# EAGLE library part AM3352 (library custom)
edit this description Auto generated by make-symbol-device-package-bsdl.ulp Rev. 39 Source:
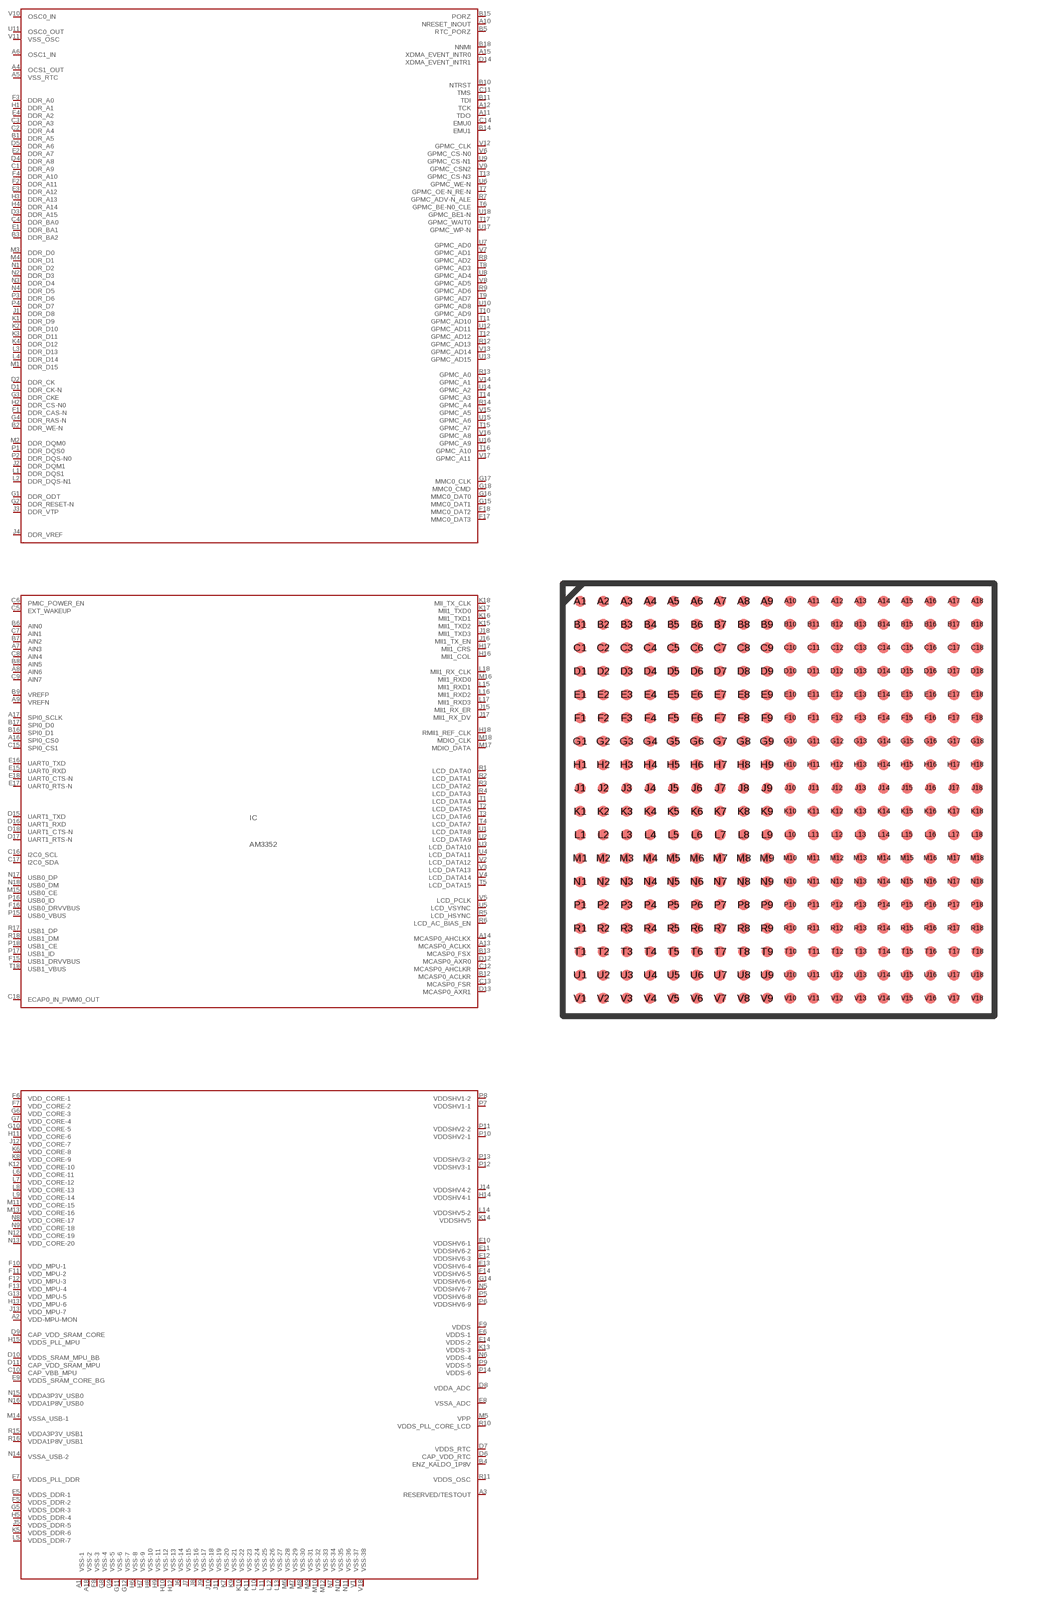
[diagram p0: symbol with the pads of S-PBGA-N324; footprint S-PBGA-N324]

Designator prefix IC

## AM3352  [S-PBGA-N324]
A1  VSS-1  pas
A2  VDD-MPU-MON  pas
A3  RESERVED/TESTOUT  pas
A4  OCS1_OUT  pas
A5  VSS_RTC  pas
A6  OSC1_IN  pas
A7  AIN3  pas
A8  AIN6  pas
A9  VREFN  pas
A10  NRESET_INOUT  pas
A11  TDO  pas
A12  TCK  pas
A13  MCASP0_ACLKX  pas
A14  MCASP0_AHCLKX  pas
A15  XDMA_EVENT_INTR0  pas
A16  SPI0_CS0  pas
A17  SPI0_SCLK  pas
A18  VSS-2  pas
B1  DDR_A5  pas
B2  DDR_WE-N  pas
B3  DDR_BA2  pas
B4  ENZ_KALDO_1P8V  pas
B5  RTC_PORZ  pas
B6  AIN0  pas
B7  AIN2  pas
B8  AIN5  pas
B9  VREFP  pas
B10  NTRST  pas
B11  TDI  pas
B12  MCASP0_ACLKR  pas
B13  MCASP0_FSX  pas
B14  EMU1  pas
B15  PORZ  pas
B16  SPI0_D1  pas
B17  SPI0_D0  pas
B18  NNMI  pas
C1  DDR_A9  pas
C2  DDR_A4  pas
C3  DDR_A3  pas
C4  DDR_BA0  pas
C5  EXT_WAKEUP  pas
C6  PMIC_POWER_EN  pas
C7  AIN1  pas
C8  AIN4  pas
C9  AIN7  pas
C10  CAP_VBB_MPU  pas
C11  TMS  pas
C12  MCASP0_AHCLKR  pas
C13  MCASP0_FSR  pas
C14  EMU0  pas
C15  SPI0_CS1  pas
C16  I2C0_SCL  pas
C17  I2C0_SDA  pas
C18  ECAP0_IN_PWM0_OUT  pas
D1  DDR_CK-N  pas
D2  DDR_CK  pas
D3  DDR_A15  pas
D4  DDR_A8  pas
D5  DDR_A6  pas
D6  CAP_VDD_RTC  pas
D7  VDDS_RTC  pas
D8  VDDA_ADC  pas
D9  CAP_VDD_SRAM_CORE  pas
D10  VDDS_SRAM_MPU_BB  pas
D11  CAP_VDD_SRAM_MPU  pas
D12  MCASP0_AXR0  pas
D13  MCASP0_AXR1  pas
D14  XDMA_EVENT_INTR1  pas
D15  UART1_TXD  pas
D16  UART1_RXD  pas
D17  UART1_RTS-N  pas
D18  UART1_CTS-N  pas
E1  DDR_BA1  pas
E2  DDR_A7  pas
E3  DDR_A12  pas
E4  DDR_A2  pas
E5  VDDS_DDR-1  pas
E6  VDDS-1  pas
E7  VDDS_PLL_DDR  pas
E8  VSSA_ADC  pas
E9  VDDS_SRAM_CORE_BG  pas
E10  VDDSHV6-1  pas
E11  VDDSHV6-2  pas
E12  VDDSHV6-3  pas
E13  VDDSHV6-4  pas
E14  VDDS-2  pas
E15  UART0_RXD  pas
E16  UART0_TXD  pas
E17  UART0_RTS-N  pas
E18  UART0_CTS-N  pas
F1  DDR_CAS-N  pas
F2  DDR_A11  pas
F3  DDR_A0  pas
F4  DDR_A10  pas
F5  VDDS_DDR-2  pas
F6  VDD_CORE-1  pas
F7  VDD_CORE-2  pas
F8  VSS-3  pas
F9  VDDS  pas
F10  VDD_MPU-1  pas
F11  VDD_MPU-2  pas
F12  VDD_MPU-3  pas
F13  VDD_MPU-4  pas
F14  VDDSHV6-5  pas
F15  USB1_DRVVBUS  pas
F16  USB0_DRVVBUS  pas
F17  MMC0_DAT3  pas
F18  MMC0_DAT2  pas
G1  DDR_ODT  pas
G2  DDR_RESET-N  pas
G3  DDR_CKE  pas
G4  DDR_RAS-N  pas
G5  VDDS_DDR-3  pas
G6  VDD_CORE-3  pas
G7  VDD_CORE-4  pas
G8  VSS-4  pas
G9  VSS-5  pas
G10  VDD_CORE-5  pas
G11  VSS-6  pas
G12  VSS-7  pas
G13  VDD_MPU-5  pas
G14  VDDSHV6-6  pas
G15  MMC0_DAT1  pas
G16  MMC0_DAT0  pas
G17  MMC0_CLK  pas
G18  MMC0_CMD  pas
H1  DDR_A1  pas
H2  DDR_CS-N0  pas
H3  DDR_A13  pas
H4  DDR_A14  pas
H5  VDDS_DDR-4  pas
H6  VSS-8  pas
H7  VSS-9  pas
H8  VSS-10  pas
H9  VSS-11  pas
H10  VSS-12  pas
H11  VDD_CORE-6  pas
H12  VSS-13  pas
H13  VDD_MPU-6  pas
H14  VDDSHV4-1  pas
H15  VDDS_PLL_MPU  pas
H16  MII1_COL  pas
H17  MII1_CRS  pas
H18  RMII1_REF_CLK  pas
J1  DDR_D8  pas
J2  DDR_DQM1  pas
J3  DDR_VTP  pas
J4  DDR_VREF  pas
J5  VDDS_DDR-5  pas
J6  VSS-14  pas
J7  VSS-15  pas
J8  VSS-16  pas
J9  VSS-17  pas
J10  VSS-18  pas
J11  VSS-19  pas
J12  VDD_CORE-7  pas
J13  VDD_MPU-7  pas
J14  VDDSHV4-2  pas
J15  MII1_RX_ER  pas
J16  MII1_TX_EN  pas
J17  MII1_RX_DV  pas
J18  MII1_TXD3  pas
K1  DDR_D9  pas
K2  DDR_D10  pas
K3  DDR_D11  pas
K4  DDR_D12  pas
K5  VDDS_DDR-6  pas
K6  VDD_CORE-8  pas
K7  VSS-20  pas
K8  VDD_CORE-9  pas
K9  VSS-21  pas
K10  VSS-22  pas
K11  VSS-23  pas
K12  VDD_CORE-10  pas
K13  VDDS-3  pas
K14  VDDSHV5  pas
K15  MII1_TXD2  pas
K16  MII1_TXD1  pas
K17  MII1_TXD0  pas
K18  MII_TX_CLK  pas
L1  DDR_DQS1  pas
L2  DDR_DQS-N1  pas
L3  DDR_D13  pas
L4  DDR_D14  pas
L5  VDDS_DDR-7  pas
L6  VDD_CORE-11  pas
L7  VDD_CORE-12  pas
L8  VDD_CORE-13  pas
L9  VDD_CORE-14  pas
L10  VSS-24  pas
L11  VSS-25  pas
L12  VSS-26  pas
L13  VSS-27  pas
L14  VDDSHV5-2  pas
L15  MII1_RXD1  pas
L16  MII1_RXD2  pas
L17  MII1_RXD3  pas
L18  MII1_RX_CLK  pas
M1  DDR_D15  pas
M2  DDR_DQM0  pas
M3  DDR_D0  pas
M4  DDR_D1  pas
M5  VPP  pas
M6  VSS-28  pas
M7  VSS-29  pas
M8  VSS-30  pas
M9  VSS-31  pas
M10  VSS-32  pas
M11  VDD_CORE-15  pas
M12  VSS-33  pas
M13  VDD_CORE-16  pas
M14  VSSA_USB-1  pas
M15  USB0_CE  pas
M16  MII1_RXD0  pas
M17  MDIO_DATA  pas
M18  MDIO_CLK  pas
N1  DDR_D2  pas
N2  DDR_D3  pas
N3  DDR_D4  pas
N4  DDR_D5  pas
N5  VDDSHV6-7  pas
N6  VDDS-4  pas
N7  VSS-34  pas
N8  VDD_CORE-17  pas
N9  VDD_CORE-18  pas
N10  VSS-35  pas
N11  VSS-36  pas
N12  VDD_CORE-19  pas
N13  VDD_CORE-20  pas
N14  VSSA_USB-2  pas
N15  VDDA3P3V_USB0  pas
N16  VDDA1P8V_USB0  pas
N17  USB0_DP  pas
N18  USB0_DM  pas
P1  DDR_DQS0  pas
P2  DDR_DQS-N0  pas
P3  DDR_D6  pas
P4  DDR_D7  pas
P5  VDDSHV6-8  pas
P6  VDDSHV6-9  pas
P7  VDDSHV1-1  pas
P8  VDDSHV1-2  pas
P9  VDDS-5  pas
P10  VDDSHV2-1  pas
P11  VDDSHV2-2  pas
P12  VDDSHV3-1  pas
P13  VDDSHV3-2  pas
P14  VDDS-6  pas
P15  USB0_VBUS  pas
P16  USB0_ID  pas
P17  USB1_ID  pas
P18  USB1_CE  pas
R1  LCD_DATA0  pas
R2  LCD_DATA1  pas
R3  LCD_DATA2  pas
R4  LCD_DATA3  pas
R5  LCD_HSYNC  pas
R6  LCD_AC_BIAS_EN  pas
R7  GPMC_ADV-N_ALE  pas
R8  GPMC_AD2  pas
R9  GPMC_AD6  pas
R10  VDDS_PLL_CORE_LCD  pas
R11  VDDS_OSC  pas
R12  GPMC_AD13  pas
R13  GPMC_A0  pas
R14  GPMC_A4  pas
R15  VDDA3P3V_USB1  pas
R16  VDDA1P8V_USB1  pas
R17  USB1_DP  pas
R18  USB1_DM  pas
T1  LCD_DATA4  pas
T2  LCD_DATA5  pas
T3  LCD_DATA6  pas
T4  LCD_DATA7  pas
T5  LCD_DATA15  pas
T6  GPMC_BE-N0_CLE  pas
T7  GPMC_OE-N_RE-N  pas
T8  GPMC_AD3  pas
T9  GPMC_AD7  pas
T10  GPMC_AD9  pas
T11  GPMC_AD10  pas
T12  GPMC_AD12  pas
T13  GPMC_CS-N3  pas
T14  GPMC_A3  pas
T15  GPMC_A7  pas
T16  GPMC_A10  pas
T17  GPMC_WAIT0  pas
T18  USB1_VBUS  pas
U1  LCD_DATA8  pas
U2  LCD_DATA9  pas
U3  LCD_DATA10  pas
U4  LCD_DATA11  pas
U5  LCD_VSYNC  pas
U6  GPMC_WE-N  pas
U7  GPMC_AD0  pas
U8  GPMC_AD4  pas
U9  GPMC_CS-N1  pas
U10  GPMC_AD8  pas
U11  OSC0_OUT  pas
U12  GPMC_AD11  pas
U13  GPMC_AD15  pas
U14  GPMC_A2  pas
U15  GPMC_A6  pas
U16  GPMC_A9  pas
U17  GPMC_WP-N  pas
U18  GPMC_BE1-N  pas
V1  VSS-37  pas
V2  LCD_DATA12  pas
V3  LCD_DATA13  pas
V4  LCD_DATA14  pas
V5  LCD_PCLK  pas
V6  GPMC_CS-N0  pas
V7  GPMC_AD1  pas
V8  GPMC_AD5  pas
V9  GPMC_CSN2  pas
V10  OSC0_IN  pas
V11  VSS_OSC  pas
V12  GPMC_CLK  pas
V13  GPMC_AD14  pas
V14  GPMC_A1  pas
V15  GPMC_A5  pas
V16  GPMC_A8  pas
V17  GPMC_A11  pas
V18  VSS-38  pas

## Footprint S-PBGA-N324 (pad centres in mm)
edit this description Auto generated by make-symbol-device-package-bsdl.ulp Rev. 39 Source:
smd 0.381 x 0.381: A1 -6.8,6.8; A2 -6,6.8; A3 -5.2,6.8; A4 -4.4,6.8; A5 -3.6,6.8; A6 -2.8,6.8; A7 -2,6.8; A8 -1.2,6.8; A9 -0.4,6.8; A10 0.4,6.8; A11 1.2,6.8; A12 2,6.8; A13 2.8,6.8; A14 3.6,6.8; A15 4.4,6.8; A16 5.2,6.8; A17 6,6.8; A18 6.8,6.8; B1 -6.8,6; B2 -6,6; B3 -5.2,6; B4 -4.4,6; B5 -3.6,6; B6 -2.8,6; B7 -2,6; B8 -1.2,6; B9 -0.4,6; B10 0.4,6; B11 1.2,6; B12 2,6; B13 2.8,6; B14 3.6,6; B15 4.4,6; B16 5.2,6; B17 6,6; B18 6.8,6; C1 -6.8,5.2; C2 -6,5.2; C3 -5.2,5.2; C4 -4.4,5.2; C5 -3.6,5.2; C6 -2.8,5.2; C7 -2,5.2; C8 -1.2,5.2; C9 -0.4,5.2; C10 0.4,5.2; C11 1.2,5.2; C12 2,5.2; C13 2.8,5.2; C14 3.6,5.2; C15 4.4,5.2; C16 5.2,5.2; C17 6,5.2; C18 6.8,5.2; D1 -6.8,4.4; D2 -6,4.4; D3 -5.2,4.4; D4 -4.4,4.4; D5 -3.6,4.4; D6 -2.8,4.4; D7 -2,4.4; D8 -1.2,4.4; D9 -0.4,4.4; D10 0.4,4.4; D11 1.2,4.4; D12 2,4.4; D13 2.8,4.4; D14 3.6,4.4; D15 4.4,4.4; D16 5.2,4.4; D17 6,4.4; D18 6.8,4.4; E1 -6.8,3.6; E2 -6,3.6; E3 -5.2,3.6; E4 -4.4,3.6; E5 -3.6,3.6; E6 -2.8,3.6; E7 -2,3.6; E8 -1.2,3.6; E9 -0.4,3.6; E10 0.4,3.6; E11 1.2,3.6; E12 2,3.6; E13 2.8,3.6; E14 3.6,3.6; E15 4.4,3.6; E16 5.2,3.6; E17 6,3.6; E18 6.8,3.6; F1 -6.8,2.8; F2 -6,2.8; F3 -5.2,2.8; F4 -4.4,2.8; F5 -3.6,2.8; F6 -2.8,2.8; F7 -2,2.8; F8 -1.2,2.8; F9 -0.4,2.8; F10 0.4,2.8; F11 1.2,2.8; F12 2,2.8; F13 2.8,2.8; F14 3.6,2.8; F15 4.4,2.8; F16 5.2,2.8; F17 6,2.8; F18 6.8,2.8; G1 -6.8,2; G2 -6,2; G3 -5.2,2; G4 -4.4,2; G5 -3.6,2; G6 -2.8,2; G7 -2,2; G8 -1.2,2; G9 -0.4,2; G10 0.4,2; G11 1.2,2; G12 2,2; G13 2.8,2; G14 3.6,2; G15 4.4,2; G16 5.2,2; G17 6,2; G18 6.8,2; H1 -6.8,1.2; H2 -6,1.2; H3 -5.2,1.2; H4 -4.4,1.2; H5 -3.6,1.2; H6 -2.8,1.2; H7 -2,1.2; H8 -1.2,1.2; H9 -0.4,1.2; H10 0.4,1.2; H11 1.2,1.2; H12 2,1.2; H13 2.8,1.2; H14 3.6,1.2; H15 4.4,1.2; H16 5.2,1.2; H17 6,1.2; H18 6.8,1.2; J1 -6.8,0.4; J2 -6,0.4; J3 -5.2,0.4; J4 -4.4,0.4; J5 -3.6,0.4; J6 -2.8,0.4; J7 -2,0.4; J8 -1.2,0.4; J9 -0.4,0.4; J10 0.4,0.4; J11 1.2,0.4; J12 2,0.4; J13 2.8,0.4; J14 3.6,0.4; J15 4.4,0.4; J16 5.2,0.4; J17 6,0.4; J18 6.8,0.4; K1 -6.8,-0.4; K2 -6,-0.4; K3 -5.2,-0.4; K4 -4.4,-0.4; K5 -3.6,-0.4; K6 -2.8,-0.4; K7 -2,-0.4; K8 -1.2,-0.4; K9 -0.4,-0.4; K10 0.4,-0.4; K11 1.2,-0.4; K12 2,-0.4; K13 2.8,-0.4; K14 3.6,-0.4; K15 4.4,-0.4; K16 5.2,-0.4; K17 6,-0.4; K18 6.8,-0.4; L1 -6.8,-1.2; L2 -6,-1.2; L3 -5.2,-1.2; L4 -4.4,-1.2; L5 -3.6,-1.2; L6 -2.8,-1.2; L7 -2,-1.2; L8 -1.2,-1.2; L9 -0.4,-1.2; L10 0.4,-1.2; L11 1.2,-1.2; L12 2,-1.2; L13 2.8,-1.2; L14 3.6,-1.2; L15 4.4,-1.2; L16 5.2,-1.2; L17 6,-1.2; L18 6.8,-1.2; M1 -6.8,-2; M2 -6,-2; M3 -5.2,-2; M4 -4.4,-2; M5 -3.6,-2; M6 -2.8,-2; M7 -2,-2; M8 -1.2,-2; M9 -0.4,-2; M10 0.4,-2; M11 1.2,-2; M12 2,-2; M13 2.8,-2; M14 3.6,-2; M15 4.4,-2; M16 5.2,-2; M17 6,-2; M18 6.8,-2; N1 -6.8,-2.8; N2 -6,-2.8; N3 -5.2,-2.8; N4 -4.4,-2.8; N5 -3.6,-2.8; N6 -2.8,-2.8; N7 -2,-2.8; N8 -1.2,-2.8; N9 -0.4,-2.8; N10 0.4,-2.8; N11 1.2,-2.8; N12 2,-2.8; N13 2.8,-2.8; N14 3.6,-2.8; N15 4.4,-2.8; N16 5.2,-2.8; N17 6,-2.8; N18 6.8,-2.8; P1 -6.8,-3.6; P2 -6,-3.6; P3 -5.2,-3.6; P4 -4.4,-3.6; P5 -3.6,-3.6; P6 -2.8,-3.6; P7 -2,-3.6; P8 -1.2,-3.6; P9 -0.4,-3.6; P10 0.4,-3.6; P11 1.2,-3.6; P12 2,-3.6; P13 2.8,-3.6; P14 3.6,-3.6; P15 4.4,-3.6; P16 5.2,-3.6; P17 6,-3.6; P18 6.8,-3.6; R1 -6.8,-4.4; R2 -6,-4.4; R3 -5.2,-4.4; R4 -4.4,-4.4; R5 -3.6,-4.4; R6 -2.8,-4.4; R7 -2,-4.4; R8 -1.2,-4.4; R9 -0.4,-4.4; R10 0.4,-4.4; R11 1.2,-4.4; R12 2,-4.4; R13 2.8,-4.4; R14 3.6,-4.4; R15 4.4,-4.4; R16 5.2,-4.4; R17 6,-4.4; R18 6.8,-4.4; T1 -6.8,-5.2; T2 -6,-5.2; T3 -5.2,-5.2; T4 -4.4,-5.2; T5 -3.6,-5.2; T6 -2.8,-5.2; T7 -2,-5.2; T8 -1.2,-5.2; T9 -0.4,-5.2; T10 0.4,-5.2; T11 1.2,-5.2; T12 2,-5.2; T13 2.8,-5.2; T14 3.6,-5.2; T15 4.4,-5.2; T16 5.2,-5.2; T17 6,-5.2; T18 6.8,-5.2; U1 -6.8,-6; U2 -6,-6; U3 -5.2,-6; U4 -4.4,-6; U5 -3.6,-6; U6 -2.8,-6; U7 -2,-6; U8 -1.2,-6; U9 -0.4,-6; U10 0.4,-6; U11 1.2,-6; U12 2,-6; U13 2.8,-6; U14 3.6,-6; U15 4.4,-6; U16 5.2,-6; U17 6,-6; U18 6.8,-6; V1 -6.8,-6.8; V2 -6,-6.8; V3 -5.2,-6.8; V4 -4.4,-6.8; V5 -3.6,-6.8; V6 -2.8,-6.8; V7 -2,-6.8; V8 -1.2,-6.8; V9 -0.4,-6.8; V10 0.4,-6.8; V11 1.2,-6.8; V12 2,-6.8; V13 2.8,-6.8; V14 3.6,-6.8; V15 4.4,-6.8; V16 5.2,-6.8; V17 6,-6.8; V18 6.8,-6.8